# Altium footprint library RESC4817X04N.PcbLib: 1 footprints
Each footprint in its own frame and in the unit in brackets; x right, y up, seen from the top. Pads: shape width x height; smd on the part's side, far side on the other; paste and mask are expansions set on the pad; w line width, h text height; cw(c..) or ccw(c..) is an arc to the next point about the centre after c.
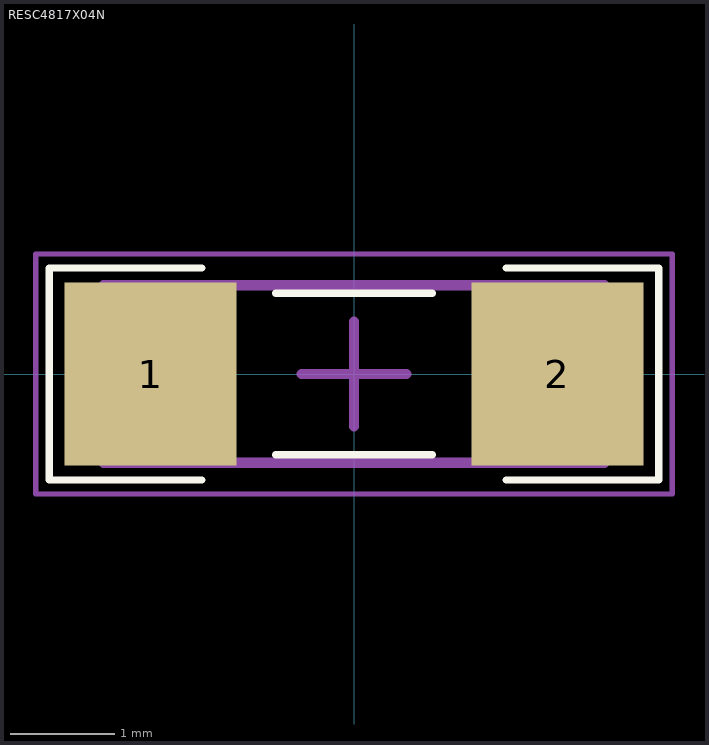
[diagram p0: the footprint, top view; thin cyan lines are the x and y axes]

## RESC4817X04N [mm] "Chip Resistor, 2-Leads, Body 4/80x1/70mm, IPC Medium Density-Design:Abbas Basereh"
height 0.4
pads (2):
  rect 1.65x1.75 smd: 1(-1.95,0) 2(1.95,0)
Top Overlay:
  lines w0.07: -1.46,-1.016 -2.921,-1.016 -2.921,1.016 -1.46,1.016 ; -0.75,-0.775 0.75,-0.775 ; -0.75,0.775 0.75,0.775 ; 1.46,-1.016 2.921,-1.016 2.921,1.016 1.46,1.016
Mechanical 13:
  lines w0.1: -2.4,-0.85 -2.4,0.85 2.4,0.85 2.4,-0.85 -2.4,-0.85
Mechanical 15:
  lines w0.05: -3.05,-1.15 -3.05,1.15 3.05,1.15 3.05,-1.15 -3.05,-1.15
  lines w0.1: -0.5,0 0.5,0 ; 0,-0.5 0,0.5
3D body "SW3dPS-1206 SMD Resistor.STEP": height 1, standoff 0, extent -1.6,-0.8 1.6,0.8